# Altium footprint library CAPPM350X282X210L82X219N.PcbLib: 1 footprints
Each footprint in its own frame and in the unit in brackets; x right, y up, seen from the top. Pads: shape width x height; smd on the part's side, far side on the other; paste and mask are expansions set on the pad; w line width, h text height; cw(c..) or ccw(c..) is an arc to the next point about the centre after c.
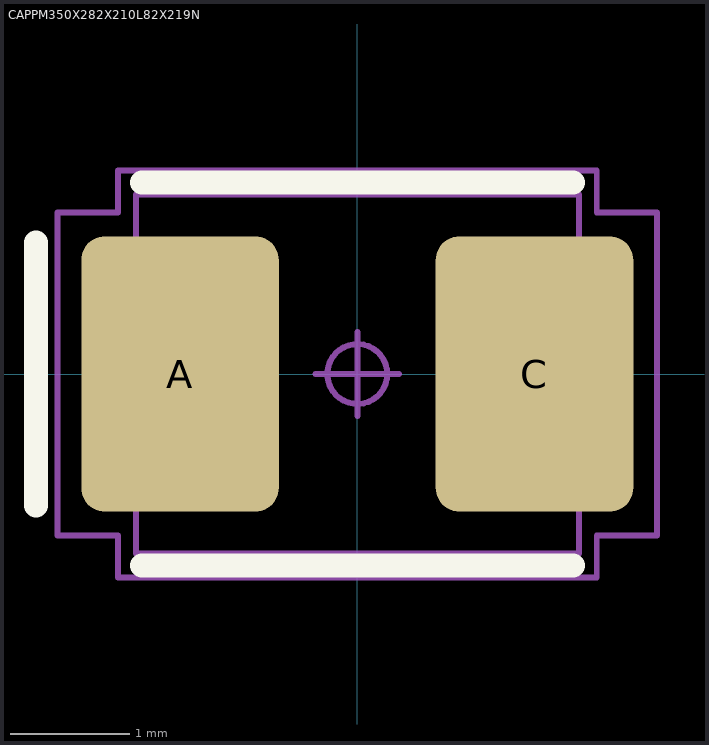
[diagram p0: the footprint, top view; thin cyan lines are the x and y axes]

## CAPPM350X282X210L82X219N [mm] "Capacitor, Polarized, Molded Body; 3.40 mm L X 2.825 mm W X 2.10 mm H body"
height 2.1
pads (2):
  rrect24% 1.65x2.3 smd mask+0.05: A(-1.48,0) C(1.48,0)
Top Overlay:
  lines w0.2: -2.685,-1.1 -2.685,1.1 ; -1.8,-1.6 1.8,-1.6 ; -1.8,1.6 1.8,1.6
Mechanical 11:
  lines w0.05: -1.85,-1.5 1.85,-1.5 1.85,1.5 -1.85,1.5 -1.85,-1.5
Mechanical 15:
  circle w0.05: c0,0 r0.25
  lines w0.05: -0.35,0 0.35,0 ; 0,-0.35 0,0.35 ; -2.505,-1.35 -2,-1.35 -2,-1.7 2,-1.7 2,-1.35 2.505,-1.35 2.505,1.35 2,1.35 2,1.7 -2,1.7 -2,1.35 -2.505,1.35 -2.505,-1.35
3D body "CAPPM350X282X210L82X219.STEP": height 2.1, standoff 0, extent -1.85,-1.5 1.85,1.5